# Altium schematic symbol library DW_custom_symbols.SchLib: 23 symbols
Pins are listed as number, name and electrical type; pins without a type are passive.

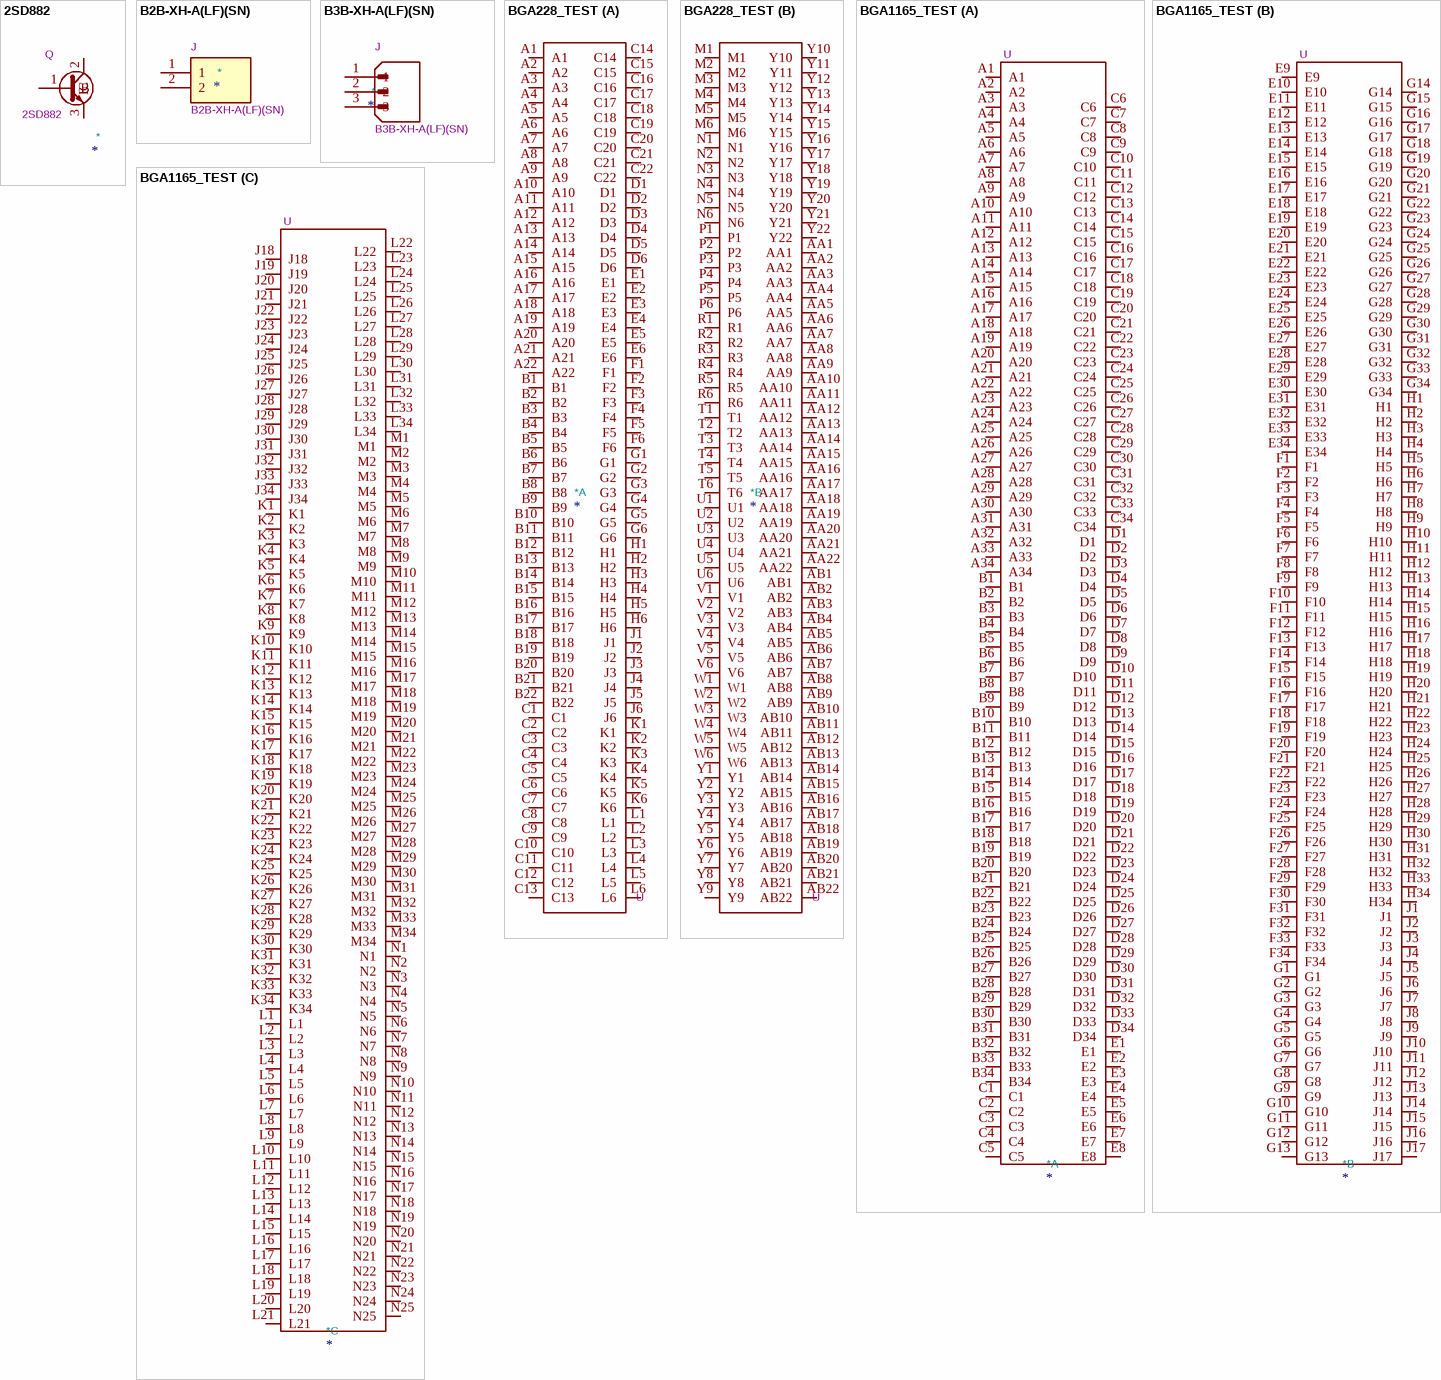
[diagram p0: symbols 2SD882 to BGA1165_TEST]

## 2SD882
designator *  value 2SD882  Reference: Q
pins: 1 B, 2 C, 3 E

## B2B-XH-A(LF)(SN)
designator *  value B2B-XH-A(LF)(SN)  Reference: J
MF: JST Sales; DESCRIPTION: Connector Header Through Hole 2 position 0.098 (2.50mm); Footprint: JST_B2B-XH-A(LF)(SN); MP: B2B-XH-A(LF)(SN); PACKAGE: None; AVAILABILITY: In Stock; PRICE: None
pins: 1, 2

## B3B-XH-A(LF)(SN)
designator *  value B3B-XH-A(LF)(SN)  Reference: J
MANUFACTURER: JST Sales America Inc.; Footprint: JST_B3B-XH-A(LF)(SN); STANDARD: Manufacturer Recommendations; SNAPEDA_PN: B3B-XH-A(LF)(SN); MAXIMUM_PACKAGE_HEIGHT: 7 mm; PARTREV: N/A
pins: 1, 2, 3

## BGA228_TEST
designator *  Reference: U
part A pins: A1, A2, A3, A4, A5, A6, A7, A8, A9, A10, A11, A12, A13, A14, A15, A16, A17, A18, A19, A20, A21, A22, B1, B2, B3, B4, B5, B6, B7, B8, B9, B10, B11, B12, B13, B14, B15, B16, B17, B18, B19, B20, B21, B22, C1, C2, C3, C4, C5, C6, C7, C8, C9, C10, C11, C12, C13, C14, C15, C16, C17, C18, C19, C20, C21, C22, D1, D2, D3, D4, D5, D6, E1, E2, E3, E4, E5, E6, F1, F2, F3, F4, F5, F6, G1, G2, G3, G4, G5, G6, H1, H2, H3, H4, H5, H6, J1, J2, J3, J4, J5, J6, K1, K2, K3, K4, K5, K6, L1, L2, L3, L4, L5, L6
part B pins: AA1, AA2, AA3, AA4, AA5, AA6, AA7, AA8, AA9, AA10, AA11, AA12, AA13, AA14, AA15, AA16, AA17, AA18, AA19, AA20, AA21, AA22, AB1, AB2, AB3, AB4, AB5, AB6, AB7, AB8, AB9, AB10, AB11, AB12, AB13, AB14, AB15, AB16, AB17, AB18, AB19, AB20, AB21, AB22, M1, M2, M3, M4, M5, M6, N1, N2, N3, N4, N5, N6, P1, P2, P3, P4, P5, P6, R1, R2, R3, R4, R5, R6, T1, T2, T3, T4, T5, T6, U1, U2, U3, U4, U5, U6, V1, V2, V3, V4, V5, V6, W1, W2, W3, W4, W5, W6, Y1, Y2, Y3, Y4, Y5, Y6, Y7, Y8, Y9, Y10, Y11, Y12, Y13, Y14, Y15, Y16, Y17, Y18, Y19, Y20, Y21, Y22

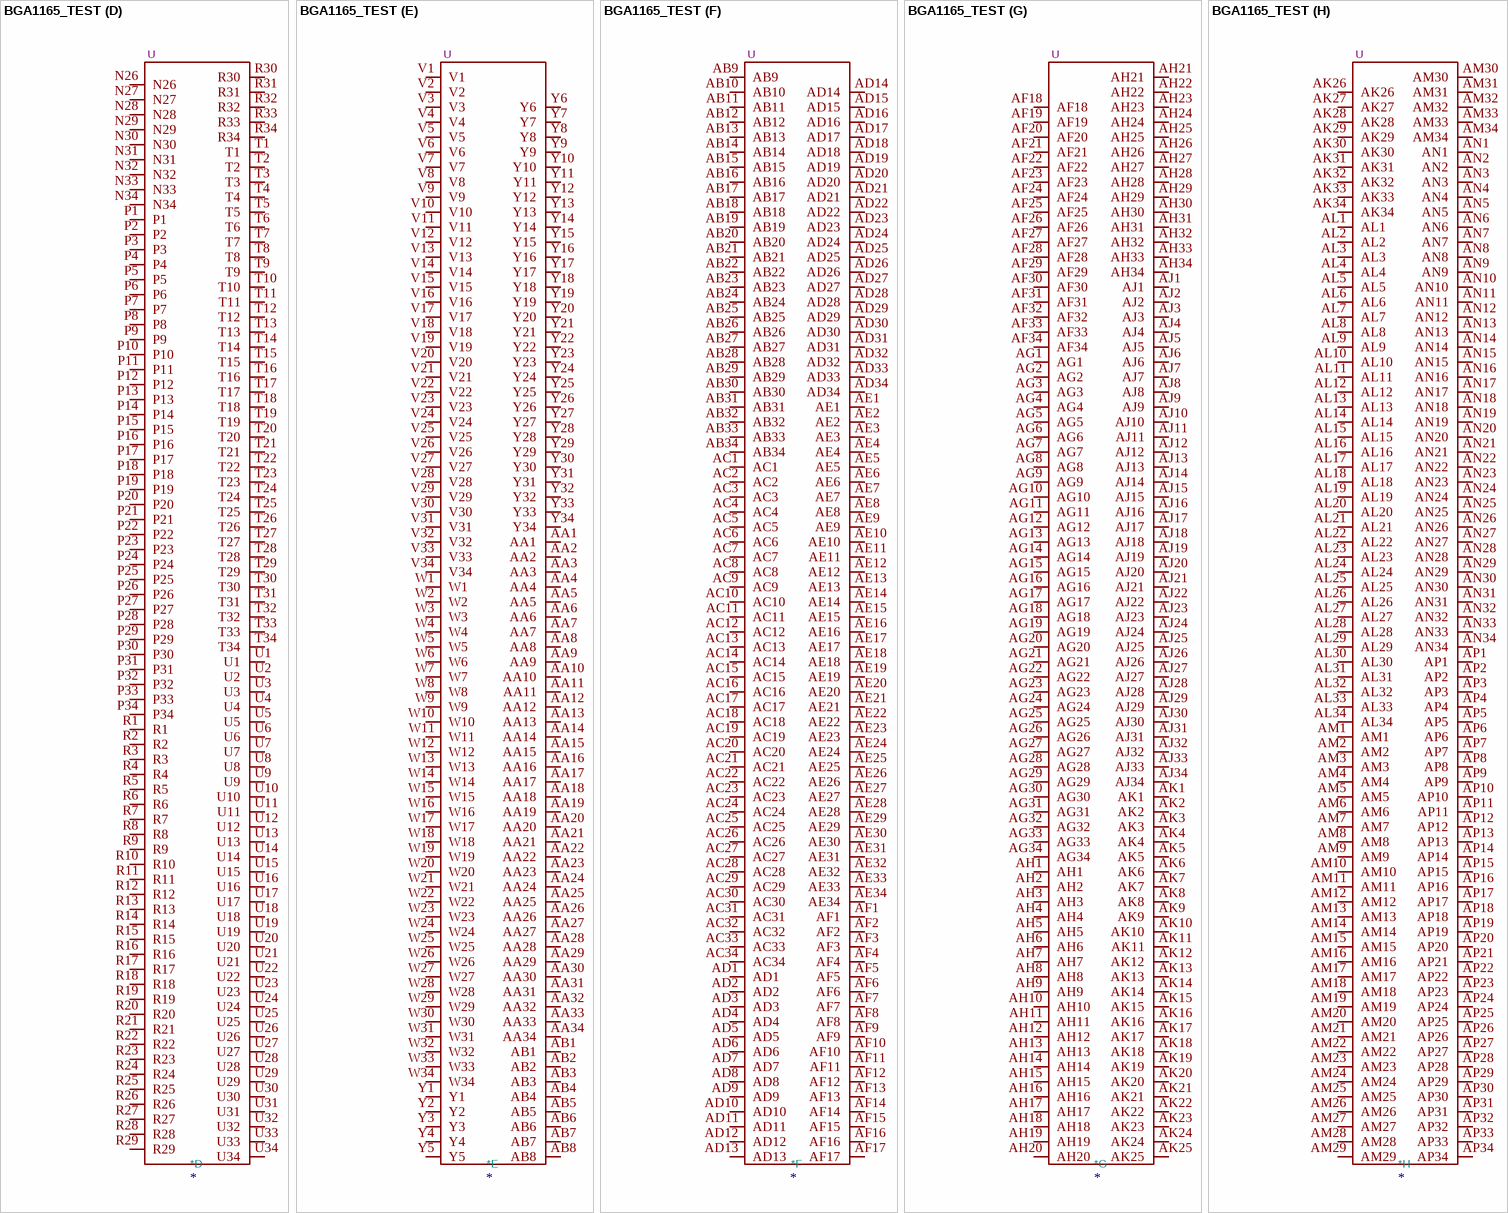
[diagram p1: symbol BGA1165_TEST]

## BGA1165_TEST
designator *  Reference: U
Footprint: Package_BGA:BGA-1156_35.0x35.0mm_Layout34x34_P1.0mm
part A pins: A1, A2, A3, A4, A5, A6, A7, A8, A9, A10, A11, A12, A13, A14, A15, A16, A17, A18, A19, A20, A21, A22, A23, A24, A25, A26, A27, A28, A29, A30, A31, A32, A33, A34, B1, B2, B3, B4, B5, B6, B7, B8, B9, B10, B11, B12, B13, B14, B15, B16, B17, B18, B19, B20, B21, B22, B23, B24, B25, B26, B27, B28, B29, B30, B31, B32, B33, B34, C1, C2, C3, C4, C5, C6, C7, C8, C9, C10, C11, C12, C13, C14, C15, C16, C17, C18, C19, C20, C21, C22, C23, C24, C25, C26, C27, C28, C29, C30, C31, C32, C33, C34, D1, D2, D3, D4, D5, D6, D7, D8, D9, D10, D11, D12, D13, D14, D15, D16, D17, D18, D19, D20, D21, D22, D23, D24, D25, D26, D27, D28, D29, D30, D31, D32, D33, D34, E1, E2, E3, E4, E5, E6, E7, E8
part B pins: E9, E10, E11, E12, E13, E14, E15, E16, E17, E18, E19, E20, E21, E22, E23, E24, E25, E26, E27, E28, E29, E30, E31, E32, E33, E34, F1, F2, F3, F4, F5, F6, F7, F8, F9, F10, F11, F12, F13, F14, F15, F16, F17, F18, F19, F20, F21, F22, F23, F24, F25, F26, F27, F28, F29, F30, F31, F32, F33, F34, G1, G2, G3, G4, G5, G6, G7, G8, G9, G10, G11, G12, G13, G14, G15, G16, G17, G18, G19, G20, G21, G22, G23, G24, G25, G26, G27, G28, G29, G30, G31, G32, G33, G34, H1, H2, H3, H4, H5, H6, H7, H8, H9, H10, H11, H12, H13, H14, H15, H16, H17, H18, H19, H20, H21, H22, H23, H24, H25, H26, H27, H28, H29, H30, H31, H32, H33, H34, J1, J2, J3, J4, J5, J6, J7, J8, J9, J10, J11, J12, J13, J14, J15, J16, J17
part C pins: J18, J19, J20, J21, J22, J23, J24, J25, J26, J27, J28, J29, J30, J31, J32, J33, J34, K1, K2, K3, K4, K5, K6, K7, K8, K9, K10, K11, K12, K13, K14, K15, K16, K17, K18, K19, K20, K21, K22, K23, K24, K25, K26, K27, K28, K29, K30, K31, K32, K33, K34, L1, L2, L3, L4, L5, L6, L7, L8, L9, L10, L11, L12, L13, L14, L15, L16, L17, L18, L19, L20, L21, L22, L23, L24, L25, L26, L27, L28, L29, L30, L31, L32, L33, L34, M1, M2, M3, M4, M5, M6, M7, M8, M9, M10, M11, M12, M13, M14, M15, M16, M17, M18, M19, M20, M21, M22, M23, M24, M25, M26, M27, M28, M29, M30, M31, M32, M33, M34, N1, N2, N3, N4, N5, N6, N7, N8, N9, N10, N11, N12, N13, N14, N15, N16, N17, N18, N19, N20, N21, N22, N23, N24, N25
part D pins: N26, N27, N28, N29, N30, N31, N32, N33, N34, P1, P2, P3, P4, P5, P6, P7, P8, P9, P10, P11, P12, P13, P14, P15, P16, P17, P18, P19, P20, P21, P22, P23, P24, P25, P26, P27, P28, P29, P30, P31, P32, P33, P34, R1, R2, R3, R4, R5, R6, R7, R8, R9, R10, R11, R12, R13, R14, R15, R16, R17, R18, R19, R20, R21, R22, R23, R24, R25, R26, R27, R28, R29, R30, R31, R32, R33, R34, T1, T2, T3, T4, T5, T6, T7, T8, T9, T10, T11, T12, T13, T14, T15, T16, T17, T18, T19, T20, T21, T22, T23, T24, T25, T26, T27, T28, T29, T30, T31, T32, T33, T34, U1, U2, U3, U4, U5, U6, U7, U8, U9, U10, U11, U12, U13, U14, U15, U16, U17, U18, U19, U20, U21, U22, U23, U24, U25, U26, U27, U28, U29, U30, U31, U32, U33, U34
part E pins: AA1, AA2, AA3, AA4, AA5, AA6, AA7, AA8, AA9, AA10, AA11, AA12, AA13, AA14, AA15, AA16, AA17, AA18, AA19, AA20, AA21, AA22, AA23, AA24, AA25, AA26, AA27, AA28, AA29, AA30, AA31, AA32, AA33, AA34, AB1, AB2, AB3, AB4, AB5, AB6, AB7, AB8, V1, V2, V3, V4, V5, V6, V7, V8, V9, V10, V11, V12, V13, V14, V15, V16, V17, V18, V19, V20, V21, V22, V23, V24, V25, V26, V27, V28, V29, V30, V31, V32, V33, V34, W1, W2, W3, W4, W5, W6, W7, W8, W9, W10, W11, W12, W13, W14, W15, W16, W17, W18, W19, W20, W21, W22, W23, W24, W25, W26, W27, W28, W29, W30, W31, W32, W33, W34, Y1, Y2, Y3, Y4, Y5, Y6, Y7, Y8, Y9, Y10, Y11, Y12, Y13, Y14, Y15, Y16, Y17, Y18, Y19, Y20, Y21, Y22, Y23, Y24, Y25, Y26, Y27, Y28, Y29, Y30, Y31, Y32, Y33, Y34
part F pins: AB9, AB10, AB11, AB12, AB13, AB14, AB15, AB16, AB17, AB18, AB19, AB20, AB21, AB22, AB23, AB24, AB25, AB26, AB27, AB28, AB29, AB30, AB31, AB32, AB33, AB34, AC1, AC2, AC3, AC4, AC5, AC6, AC7, AC8, AC9, AC10, AC11, AC12, AC13, AC14, AC15, AC16, AC17, AC18, AC19, AC20, AC21, AC22, AC23, AC24, AC25, AC26, AC27, AC28, AC29, AC30, AC31, AC32, AC33, AC34, AD1, AD2, AD3, AD4, AD5, AD6, AD7, AD8, AD9, AD10, AD11, AD12, AD13, AD14, AD15, AD16, AD17, AD18, AD19, AD20, AD21, AD22, AD23, AD24, AD25, AD26, AD27, AD28, AD29, AD30, AD31, AD32, AD33, AD34, AE1, AE2, AE3, AE4, AE5, AE6, AE7, AE8, AE9, AE10, AE11, AE12, AE13, AE14, AE15, AE16, AE17, AE18, AE19, AE20, AE21, AE22, AE23, AE24, AE25, AE26, AE27, AE28, AE29, AE30, AE31, AE32, AE33, AE34, AF1, AF2, AF3, AF4, AF5, AF6, AF7, AF8, AF9, AF10, AF11, AF12, AF13, AF14, AF15, AF16, AF17
part G pins: AF18, AF19, AF20, AF21, AF22, AF23, AF24, AF25, AF26, AF27, AF28, AF29, AF30, AF31, AF32, AF33, AF34, AG1, AG2, AG3, AG4, AG5, AG6, AG7, AG8, AG9, AG10, AG11, AG12, AG13, AG14, AG15, AG16, AG17, AG18, AG19, AG20, AG21, AG22, AG23, AG24, AG25, AG26, AG27, AG28, AG29, AG30, AG31, AG32, AG33, AG34, AH1, AH2, AH3, AH4, AH5, AH6, AH7, AH8, AH9, AH10, AH11, AH12, AH13, AH14, AH15, AH16, AH17, AH18, AH19, AH20, AH21, AH22, AH23, AH24, AH25, AH26, AH27, AH28, AH29, AH30, AH31, AH32, AH33, AH34, AJ1, AJ2, AJ3, AJ4, AJ5, AJ6, AJ7, AJ8, AJ9, AJ10, AJ11, AJ12, AJ13, AJ14, AJ15, AJ16, AJ17, AJ18, AJ19, AJ20, AJ21, AJ22, AJ23, AJ24, AJ25, AJ26, AJ27, AJ28, AJ29, AJ30, AJ31, AJ32, AJ33, AJ34, AK1, AK2, AK3, AK4, AK5, AK6, AK7, AK8, AK9, AK10, AK11, AK12, AK13, AK14, AK15, AK16, AK17, AK18, AK19, AK20, AK21, AK22, AK23, AK24, AK25
part H pins: AK26, AK27, AK28, AK29, AK30, AK31, AK32, AK33, AK34, AL1, AL2, AL3, AL4, AL5, AL6, AL7, AL8, AL9, AL10, AL11, AL12, AL13, AL14, AL15, AL16, AL17, AL18, AL19, AL20, AL21, AL22, AL23, AL24, AL25, AL26, AL27, AL28, AL29, AL30, AL31, AL32, AL33, AL34, AM1, AM2, AM3, AM4, AM5, AM6, AM7, AM8, AM9, AM10, AM11, AM12, AM13, AM14, AM15, AM16, AM17, AM18, AM19, AM20, AM21, AM22, AM23, AM24, AM25, AM26, AM27, AM28, AM29, AM30, AM31, AM32, AM33, AM34, AN1, AN2, AN3, AN4, AN5, AN6, AN7, AN8, AN9, AN10, AN11, AN12, AN13, AN14, AN15, AN16, AN17, AN18, AN19, AN20, AN21, AN22, AN23, AN24, AN25, AN26, AN27, AN28, AN29, AN30, AN31, AN32, AN33, AN34, AP1, AP2, AP3, AP4, AP5, AP6, AP7, AP8, AP9, AP10, AP11, AP12, AP13, AP14, AP15, AP16, AP17, AP18, AP19, AP20, AP21, AP22, AP23, AP24, AP25, AP26, AP27, AP28, AP29, AP30, AP31, AP32, AP33, AP34

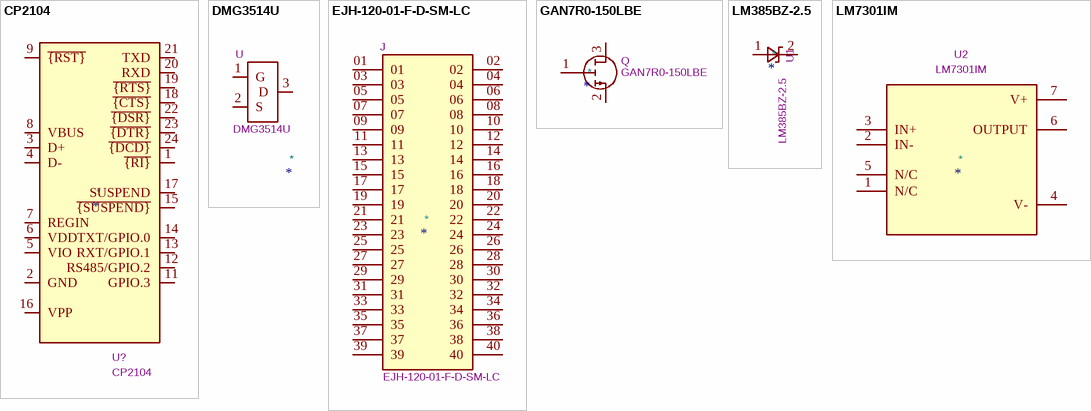
[diagram p2: symbols CP2104 to LM7301IM]

## CP2104
designator *  value CP2104  Reference: U?
ki_keywords: uart usb bridge interface transceiver; ki_description: Single-Chip USB-to-UART Bridge, USB 2.0 Full-Speed, 2Mbps UART, QFN-24; ki_fp_filters: QFN*4x4mm*P0.5mm*; Footprint: Package_DFN_QFN:QFN-24-1EP_4x4mm_P0.5mm_EP2.6x2.6mm; Datasheet: https://www.silabs.com/documents/public/data-sheets/cp2104.pdf
pins: 1 ~{{RI}}, 2 GND, 3 D+, 4 D-, 5 VIO, 6 VDD, 7 REGIN, 8 VBUS, 9 ~{{RST}}, 10 NC hidden, 11 GPIO.3, 12 RS485/GPIO.2, 13 RXT/GPIO.1, 14 TXT/GPIO.0, 15 ~{{SUSPEND}}, 16 VPP, 17 SUSPEND, 18 ~{{CTS}}, 19 ~{{RTS}}, 20 RXD, 21 TXD, 22 ~{{DSR}}, 23 ~{{DTR}}, 24 ~{{DCD}}, 25 GND hidden

## DMG3514U
designator *  value DMG3514U  Reference: U
ki_description: P-channel MOSFET; Footprint: Package_TO_SOT_SMD:SOT-23
pins: 1 G, 2 S, 3 D

## EJH-120-01-F-D-SM-LC
designator *  value EJH-120-01-F-D-SM-LC  Reference: J
MANUFACTURER: Samtec; Footprint: SAMTEC_EJH-120-01-F-D-SM-LC; PARTREV: R; STANDARD: Manufacturer Recommendations
pins: 01, 02, 03, 04, 05, 06, 07, 08, 09, 10, 11, 12, 13, 14, 15, 16, 17, 18, 19, 20, 21, 22, 23, 24, 25, 26, 27, 28, 29, 30, 31, 32, 33, 34, 35, 36, 37, 38, 39, 40

## GAN7R0-150LBE
designator *  value GAN7R0-150LBE  Reference: Q
ki_keywords: N-Channel MOSFET Logic-Level; ki_description: 0.2A Id, 200V Vds, N-Channel MOSFET, 2.6V Logic Level, TO-92; ki_fp_filters: TO?92*; Footprint: Package_TO_SOT_THT:TO-92_Inline; Datasheet: https://assets.nexperia.com/documents/data-sheet/GAN7R0-150LBE.pdf
pins: 1 G, 2 S, 3 D

## LM385BZ-2.5
designator *  value LM385BZ-2.5  Reference: U1
ki_keywords: diode device voltage reference; ki_description: 2.5V Micropower Voltage Reference Diodes, TO-92; ki_fp_filters: TO?92*Inline*; Footprint: Package_TO_SOT_THT:TO-92; Datasheet: http://www.onsemi.com/pub_link/Collateral/LM285-D.PDF
pins: 1 A, 2 K

## LM7301IM
designator *  value LM7301IM  Reference: U2
Footprint: SOIC127P599X175-8N
pins: 1 N/C, 2 IN-, 3 IN+, 4 V-, 5 N/C, 6 OUTPUT, 7 V+

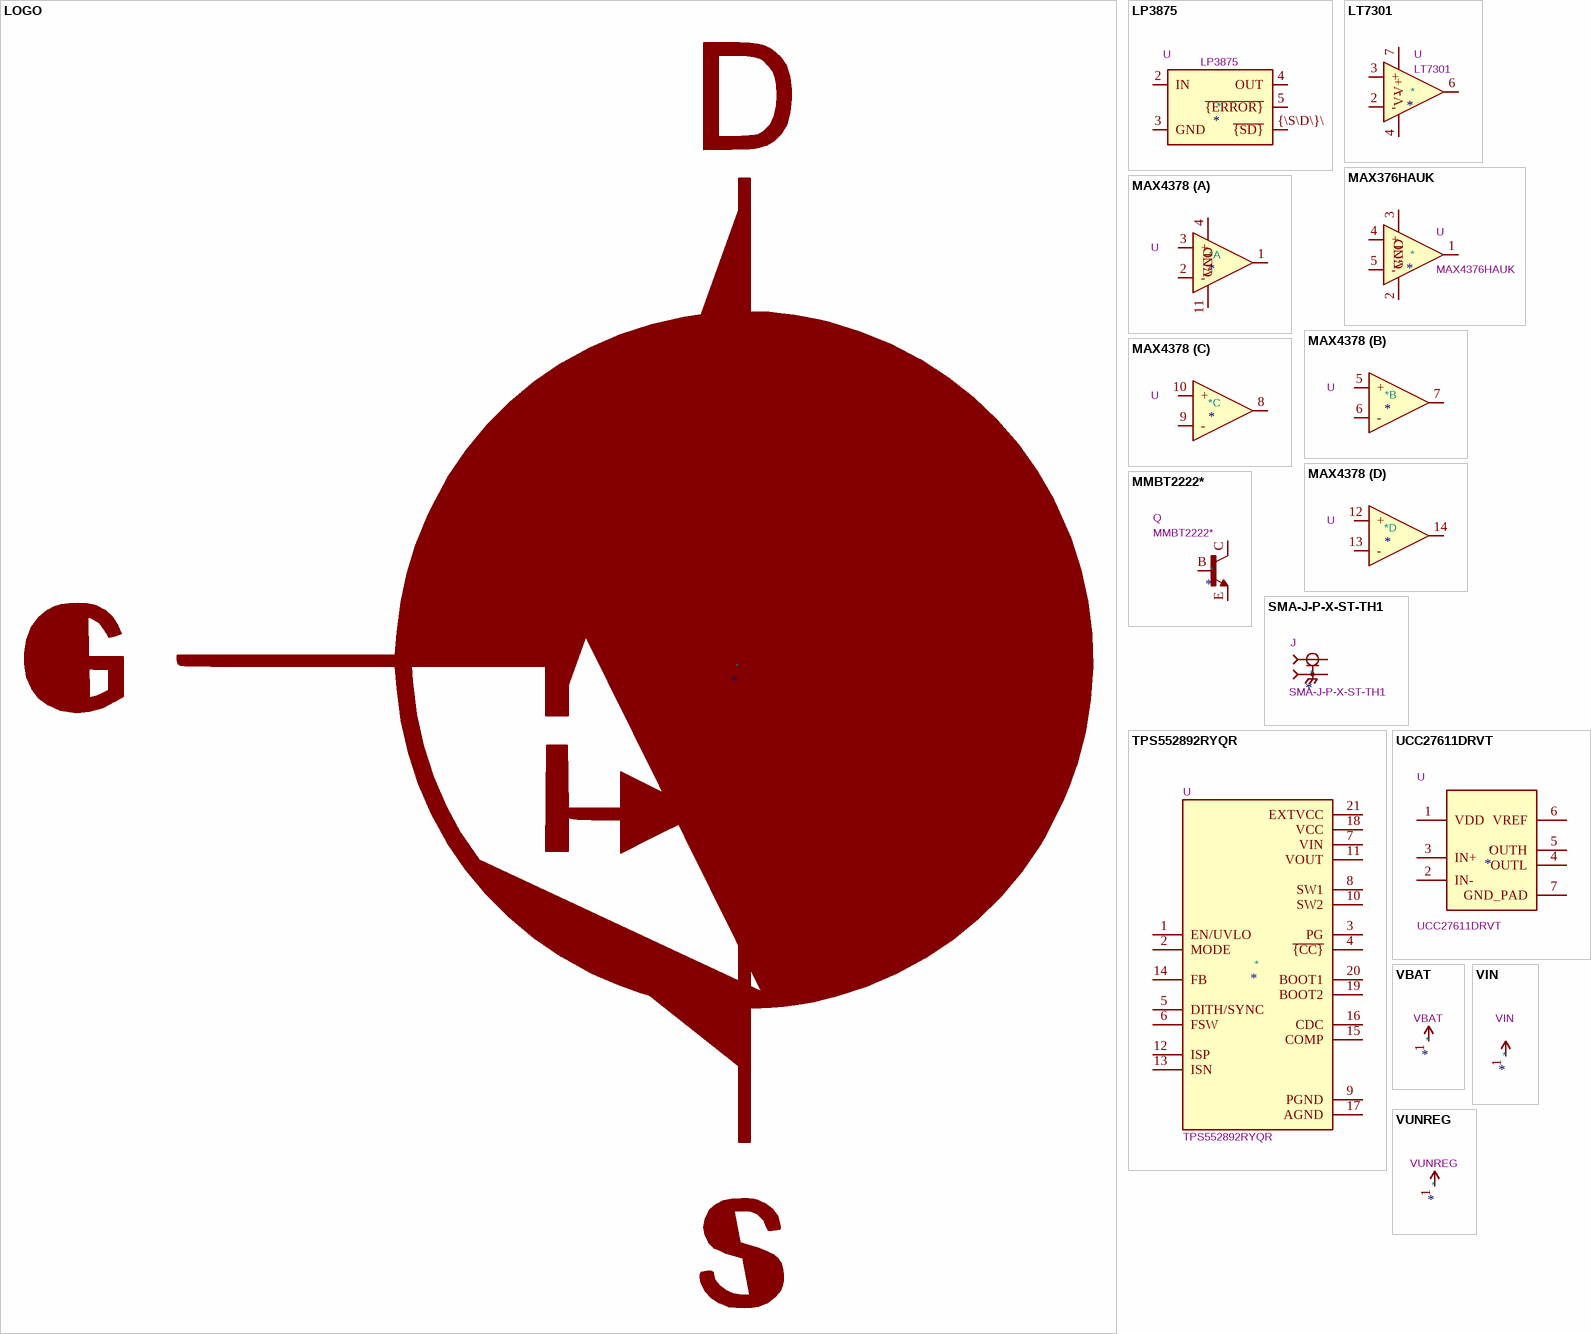
[diagram p3: symbols LOGO to VUNREG]

## LOGO
designator *
Value: LOGO; Reference: #G

## LP3875
designator *  value LP3875  Reference: U
Datasheet: https://www.ti.com/lit/ds/symlink/lp3875.pdf
pins: 2 IN, 3 GND, 4 OUT, 5 ~{{ERROR}}, {\S\D\}\

## LT7301
designator *  value LT7301  Reference: U
ki_keywords: single opamp; ki_description: Operational Amplifier, DIP-8/TO-99-8; ki_fp_filters: SOIC*3.9x4.9mm*P1.27mm* DIP*W7.62mm* TSSOP*3x3mm*P0.65mm*
pins: 1 NC hidden, 2 -, 3 +, 4 V-, 5 NC hidden, 6, 7 V+, 8 NC hidden

## MAX376HAUK
designator *  value MAX4376HAUK  Reference: U
ki_keywords: current monitor shunt sensor bidirectional high low; ki_fp_filters: SOIC*3.9x4.9mm*P1.27mm*; Footprint: Package_TO_SOT_SMD:SOT-23-5; Datasheet: https://www.analog.com/media/en/technical-documentation/data-sheets/max4376-max4378.pdf
pins: 1, 2 GND, 3 VCC, 4 +, 5 -

## MAX4378
designator *  Reference: U
part A pins: 1, 2 -, 3 +, 4 VCC, 11 GND
part B pins: 5 +, 6 -, 7
part C pins: 8, 9 -, 10 +
part D pins: 12 +, 13 -, 14

## MMBT2222*
designator *  value MMBT2222*  Reference: Q
Footprint: SOT23-BEC
pins: B, C, E

## SMA-J-P-X-ST-TH1
designator *  value SMA-J-P-X-ST-TH1  Reference: J
MANUFACTURER: Samtec; Footprint: SAMTEC_SMA-J-P-X-ST-TH1; MAXIMUM_PACKAGE_HEIGHT: 9.55mm; PARTREV: F; STANDARD: Manufacturer Recommendations
pins: 1 hidden, 2 hidden, 3 hidden, 4 hidden, 5 hidden

## TPS552892RYQR
designator *  value TPS552892RYQR  Reference: U
\nBuck-Boost Switching Regulator IC Positive Programmable 0.8V 1 Output 5A 21-PowerVFQFN\n; MF: Texas Instruments; Footprint: TPS552892RYQR:CONV_TPS552892RYQR; MAXIMUM_PACKAGE_HEIGHT: 1.00mm; Package: None; Price: None; Check_prices: https://www.snapeda.com/parts/TPS552892RYQR/Texas+Instruments/view-part/?ref=eda; STANDARD: Manufacturer Recommendations; PARTREV: A; SnapEDA_Link: https://www.snapeda.com/parts/TPS552892RYQR/Texas+Instruments/view-part/?ref=snap; MP: TPS552892RYQR; Purchase-URL: https://www.snapeda.com/api/url_track_click_mouser/?unipart_id=13805360&manufacturer=Texas Instruments&part_name=TPS552892RYQR&search_term=tps55289; Description_: \nBuck-Boost Switching Regulator IC Positive Programmable 0.8V 1 Output 5A 21-PowerVFQFN\n; Availability: In Stock; MANUFACTURER: Texas Instruments
pins: 1 EN/UVLO, 2 MODE, 3 PG, 4 ~{{CC}}, 5 DITH/SYNC, 6 FSW, 7 VIN, 8 SW1, 9 PGND, 10 SW2, 11 VOUT, 12 ISP, 13 ISN, 14 FB, 15 COMP, 16 CDC, 17 AGND, 18 VCC, 19 BOOT2, 20 BOOT1, 21 EXTVCC

## UCC27611DRVT
designator *  value UCC27611DRVT  Reference: U
MF: Texas Instruments; DESCRIPTION: 4-A/6-A single-channel gate driver with 4-V UVLO and 5-V regulated output 6-WSON -40 to 140; Footprint: SON65P200X200X80-7N; MOUSER-PURCHASE-URL: https://snapeda.com/shop?store=Mouser&id=525421; PACKAGE: WSON-6 Texas Instruments; PRICE: None; MP: UCC27611DRVT; TEXAS_INSTRUMENTS-PURCHASE-URL: https://snapeda.com/shop?store=Texas+Instruments&id=525421; AVAILABILITY: Warning; DIGIKEY-PURCHASE-URL: https://snapeda.com/shop?store=DigiKey&id=525421
pins: 1 VDD, 2 IN-, 3 IN+, 4 OUTL, 5 OUTH, 6 VREF, 7 GND_PAD

## VBAT
designator *  value VBAT
Reference: #PWR; ki_keywords: power-flag; ki_description: Power symbol creates a global label with name "VBUS"
pins: 1 VBUS

## VIN
designator *  value VIN
Reference: #PWR; ki_keywords: global power; ki_description: Power symbol creates a global label with name "VDC"
pins: 1 VIN

## VUNREG
designator *  value VUNREG
Reference: #PWR
pins: 1 VUNREG